# Altium footprint library Capacitor_THT.PcbLib: 378 footprints (part 12 of 24)
Each footprint in its own frame and in the unit in brackets; x right, y up, seen from the top. Pads: shape width x height; smd on the part's side, far side on the other; paste and mask are expansions set on the pad; w line width, h text height; cw(c..) or ccw(c..) is an arc to the next point about the centre after c.
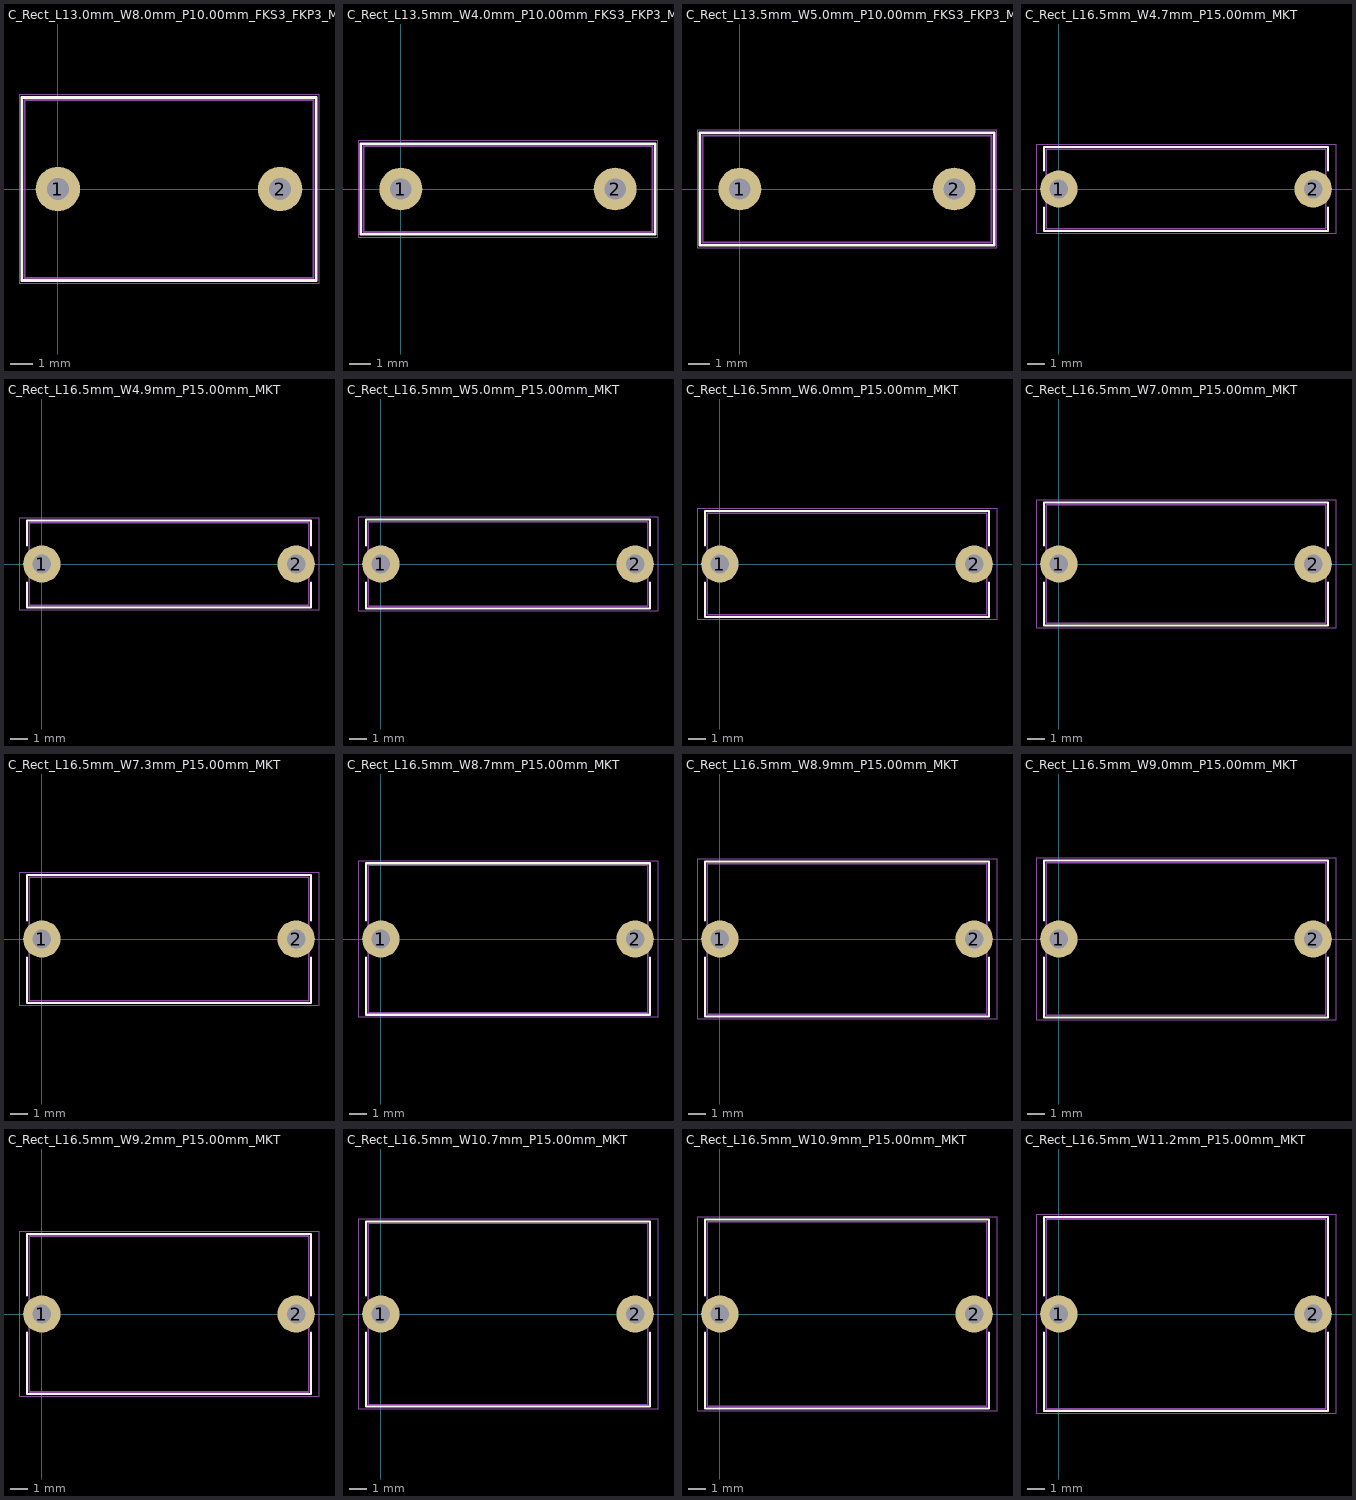
[diagram p11: the footprints below, top view; thin cyan lines are the x and y axes]

## C_Rect_L13.0mm_W8.0mm_P10.00mm_FKS3_FKP3_MKS4 [mm]
pads (2):
  round 2 hole 1: 1(0,0) 2(10,0)
F.SilkS:
  lines w0.12: -1.62,-4.12 -1.62,4.12 11.62,4.12 11.62,-4.12 -1.62,-4.12
F.CrtYd:
  lines w0.05: -1.75,-4.25 11.75,-4.25 11.75,4.25 -1.75,4.25 -1.75,-4.25
F.Fab:
  lines w0.1: -1.5,-4 11.5,-4 11.5,4 -1.5,4 -1.5,-4
  text "'.Designator'" at 0.953,-0.84 h1

## C_Rect_L13.5mm_W4.0mm_P10.00mm_FKS3_FKP3_MKS4 [mm]
pads (2):
  round 2 hole 1: 1(0,0) 2(10,0)
F.SilkS:
  lines w0.12: -1.87,-2.12 -1.87,2.12 11.87,2.12 11.87,-2.12 -1.87,-2.12
F.CrtYd:
  lines w0.05: -2,-2.25 -2,2.25 12,2.25 12,-2.25 -2,-2.25
F.Fab:
  lines w0.1: -1.75,-2 -1.75,2 11.75,2 11.75,-2 -1.75,-2
  text "'.Designator'" at 0.953,-0.84 h1

## C_Rect_L13.5mm_W5.0mm_P10.00mm_FKS3_FKP3_MKS4 [mm]
pads (2):
  round 2 hole 1: 1(0,0) 2(10,0)
F.SilkS:
  lines w0.12: -1.87,-2.62 11.87,-2.62 11.87,2.62 -1.87,2.62 -1.87,-2.62
F.CrtYd:
  lines w0.05: -2,-2.75 12,-2.75 12,2.75 -2,2.75 -2,-2.75
F.Fab:
  lines w0.1: -1.75,-2.5 -1.75,2.5 11.75,2.5 11.75,-2.5 -1.75,-2.5
  text "'.Designator'" at 0.953,-0.84 h1

## C_Rect_L16.5mm_W4.7mm_P15.00mm_MKT [mm]
pads (2):
  round 2.2 hole 1.1: 1(0,0) 2(15,0)
F.SilkS:
  lines w0.12: -0.87,-1.104 -0.87,-2.47 15.87,-2.47 15.87,-1.104 ; -0.87,1.104 -0.87,2.47 15.87,2.47 15.87,1.104
F.CrtYd:
  lines w0.05: -1.35,-2.6 16.35,-2.6 16.35,2.6 -1.35,2.6 -1.35,-2.6
F.Fab:
  lines w0.1: -0.75,-2.35 -0.75,2.35 15.75,2.35 15.75,-2.35 -0.75,-2.35
  text "'.Designator'" at 3.453,-0.84 h1

## C_Rect_L16.5mm_W4.9mm_P15.00mm_MKT [mm]
pads (2):
  round 2.2 hole 1.1: 1(0,0) 2(15,0)
F.SilkS:
  lines w0.12: -0.87,-1.104 -0.87,-2.571 15.87,-2.571 15.87,-1.104 ; -0.87,1.104 -0.87,2.571 15.87,2.571 15.87,1.104
F.CrtYd:
  lines w0.05: -1.35,-2.7 16.35,-2.7 16.35,2.7 -1.35,2.7 -1.35,-2.7
F.Fab:
  lines w0.1: -0.75,-2.45 -0.75,2.45 15.75,2.45 15.75,-2.45 -0.75,-2.45
  text "'.Designator'" at 3.453,-0.84 h1

## C_Rect_L16.5mm_W5.0mm_P15.00mm_MKT [mm]
pads (2):
  round 2.2 hole 1.1: 1(0,0) 2(15,0)
F.SilkS:
  lines w0.12: -0.87,-1.104 -0.87,-2.62 15.87,-2.62 15.87,-1.104 ; -0.87,1.104 -0.87,2.62 15.87,2.62 15.87,1.104
F.CrtYd:
  lines w0.05: -1.35,-2.75 16.35,-2.75 16.35,2.75 -1.35,2.75 -1.35,-2.75
F.Fab:
  lines w0.1: -0.75,-2.5 15.75,-2.5 15.75,2.5 -0.75,2.5 -0.75,-2.5
  text "'.Designator'" at 3.453,-0.84 h1

## C_Rect_L16.5mm_W6.0mm_P15.00mm_MKT [mm]
pads (2):
  round 2.2 hole 1.1: 1(0,0) 2(15,0)
F.SilkS:
  lines w0.12: -0.87,-1.104 -0.87,-3.12 15.87,-3.12 15.87,-1.104 ; -0.87,1.104 -0.87,3.12 15.87,3.12 15.87,1.104
F.CrtYd:
  lines w0.05: -1.35,-3.25 16.35,-3.25 16.35,3.25 -1.35,3.25 -1.35,-3.25
F.Fab:
  lines w0.1: -0.75,-3 -0.75,3 15.75,3 15.75,-3 -0.75,-3
  text "'.Designator'" at 3.453,-0.84 h1

## C_Rect_L16.5mm_W7.0mm_P15.00mm_MKT [mm]
pads (2):
  round 2.2 hole 1.1: 1(0,0) 2(15,0)
F.SilkS:
  lines w0.12: -0.87,-1.104 -0.87,-3.62 15.87,-3.62 15.87,-1.104 ; -0.87,1.104 -0.87,3.62 15.87,3.62 15.87,1.104
F.CrtYd:
  lines w0.05: -1.35,-3.75 16.35,-3.75 16.35,3.75 -1.35,3.75 -1.35,-3.75
F.Fab:
  lines w0.1: -0.75,-3.5 -0.75,3.5 15.75,3.5 15.75,-3.5 -0.75,-3.5
  text "'.Designator'" at 3.453,-0.84 h1

## C_Rect_L16.5mm_W7.3mm_P15.00mm_MKT [mm]
pads (2):
  round 2.2 hole 1.1: 1(0,0) 2(15,0)
F.SilkS:
  lines w0.12: -0.87,-1.104 -0.87,-3.77 15.87,-3.77 15.87,-1.104 ; -0.87,1.104 -0.87,3.77 15.87,3.77 15.87,1.104
F.CrtYd:
  lines w0.05: -1.35,-3.9 16.35,-3.9 16.35,3.9 -1.35,3.9 -1.35,-3.9
F.Fab:
  lines w0.1: -0.75,-3.65 15.75,-3.65 15.75,3.65 -0.75,3.65 -0.75,-3.65
  text "'.Designator'" at 3.453,-0.84 h1

## C_Rect_L16.5mm_W8.7mm_P15.00mm_MKT [mm]
pads (2):
  round 2.2 hole 1.1: 1(0,0) 2(15,0)
F.SilkS:
  lines w0.12: -0.87,-1.104 -0.87,-4.47 15.87,-4.47 15.87,-1.104 ; -0.87,1.104 -0.87,4.47 15.87,4.47 15.87,1.104
F.CrtYd:
  lines w0.05: -1.35,-4.6 16.35,-4.6 16.35,4.6 -1.35,4.6 -1.35,-4.6
F.Fab:
  lines w0.1: -0.75,-4.35 15.75,-4.35 15.75,4.35 -0.75,4.35 -0.75,-4.35
  text "'.Designator'" at 3.453,-0.84 h1

## C_Rect_L16.5mm_W8.9mm_P15.00mm_MKT [mm]
pads (2):
  round 2.2 hole 1.1: 1(0,0) 2(15,0)
F.SilkS:
  lines w0.12: -0.87,-1.104 -0.87,-4.57 15.87,-4.57 15.87,-1.104 ; -0.87,1.104 -0.87,4.57 15.87,4.57 15.87,1.104
F.CrtYd:
  lines w0.05: -1.35,-4.7 16.35,-4.7 16.35,4.7 -1.35,4.7 -1.35,-4.7
F.Fab:
  lines w0.1: -0.75,-4.45 15.75,-4.45 15.75,4.45 -0.75,4.45 -0.75,-4.45
  text "'.Designator'" at 3.453,-0.84 h1

## C_Rect_L16.5mm_W9.0mm_P15.00mm_MKT [mm]
pads (2):
  round 2.2 hole 1.1: 1(0,0) 2(15,0)
F.SilkS:
  lines w0.12: -0.87,-1.104 -0.87,-4.62 15.87,-4.62 15.87,-1.104 ; -0.87,1.104 -0.87,4.62 15.87,4.62 15.87,1.104
F.CrtYd:
  lines w0.05: -1.35,-4.75 16.35,-4.75 16.35,4.75 -1.35,4.75 -1.35,-4.75
F.Fab:
  lines w0.1: -0.75,-4.5 -0.75,4.5 15.75,4.5 15.75,-4.5 -0.75,-4.5
  text "'.Designator'" at 3.453,-0.84 h1

## C_Rect_L16.5mm_W9.2mm_P15.00mm_MKT [mm]
pads (2):
  round 2.2 hole 1.1: 1(0,0) 2(15,0)
F.SilkS:
  lines w0.12: -0.87,-1.104 -0.87,-4.72 15.87,-4.72 15.87,-1.104 ; -0.87,1.104 -0.87,4.72 15.87,4.72 15.87,1.104
F.CrtYd:
  lines w0.05: -1.35,-4.85 -1.35,4.85 16.35,4.85 16.35,-4.85 -1.35,-4.85
F.Fab:
  lines w0.1: -0.75,-4.6 15.75,-4.6 15.75,4.6 -0.75,4.6 -0.75,-4.6
  text "'.Designator'" at 3.453,-0.84 h1

## C_Rect_L16.5mm_W10.7mm_P15.00mm_MKT [mm]
pads (2):
  round 2.2 hole 1.1: 1(0,0) 2(15,0)
F.SilkS:
  lines w0.12: -0.87,-1.104 -0.87,-5.47 15.87,-5.47 15.87,-1.104 ; -0.87,1.104 -0.87,5.47 15.87,5.47 15.87,1.104
F.CrtYd:
  lines w0.05: -1.35,-5.6 16.35,-5.6 16.35,5.6 -1.35,5.6 -1.35,-5.6
F.Fab:
  lines w0.1: -0.75,-5.35 -0.75,5.35 15.75,5.35 15.75,-5.35 -0.75,-5.35
  text "'.Designator'" at 3.453,-0.84 h1

## C_Rect_L16.5mm_W10.9mm_P15.00mm_MKT [mm]
pads (2):
  round 2.2 hole 1.1: 1(0,0) 2(15,0)
F.SilkS:
  lines w0.12: -0.87,-1.104 -0.87,-5.57 15.87,-5.57 15.87,-1.104 ; -0.87,1.104 -0.87,5.57 15.87,5.57 15.87,1.104
F.CrtYd:
  lines w0.05: -1.35,-5.7 16.35,-5.7 16.35,5.7 -1.35,5.7 -1.35,-5.7
F.Fab:
  lines w0.1: -0.75,-5.45 15.75,-5.45 15.75,5.45 -0.75,5.45 -0.75,-5.45
  text "'.Designator'" at 3.453,-0.84 h1

## C_Rect_L16.5mm_W11.2mm_P15.00mm_MKT [mm]
pads (2):
  round 2.2 hole 1.1: 1(0,0) 2(15,0)
F.SilkS:
  lines w0.12: -0.87,-1.104 -0.87,-5.72 15.87,-5.72 15.87,-1.104 ; -0.87,1.104 -0.87,5.72 15.87,5.72 15.87,1.104
F.CrtYd:
  lines w0.05: -1.35,-5.85 16.35,-5.85 16.35,5.85 -1.35,5.85 -1.35,-5.85
F.Fab:
  lines w0.1: -0.75,-5.6 15.75,-5.6 15.75,5.6 -0.75,5.6 -0.75,-5.6
  text "'.Designator'" at 3.453,-0.84 h1